# Altium integrated library BQ24072TRGTR.IntLib: 1 symbol
Pins are listed as number, name and electrical type; pins without a type are passive.

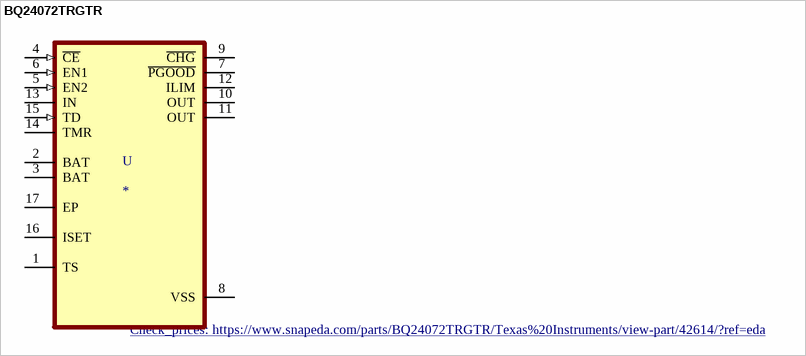
[diagram p0: symbol BQ24072TRGTR]

## BQ24072TRGTR
designator U
Standalone 1-cell 1.5-A linear charger, Power Path, 4.2-V VBAT, Voltage-based TS w/ TD 16-VQFN -40 to 85; MF: Texas Instruments; MP: BQ24072TRGTR; Texas_Instruments-Purchase-URL: https://snapeda.com/shop?store=Texas+Instruments&id=42614; Mouser-Purchase-URL: https://snapeda.com/shop?store=Mouser&id=42614; SnapEDA_Link: https://www.snapeda.com/parts/BQ24072TRGTR/Texas%20Instruments/view-part/42614/?ref=snap; Availability: Good; DigiKey-Purchase-URL: https://snapeda.com/shop?store=DigiKey&id=42614; Package: VQFN-16 Texas Instruments; Value: *; Price: None; Arrow_Electronics-Purchase-URL: https://snapeda.com/shop?store=Arrow+Electronics&id=42614; Check_prices: https://www.snapeda.com/parts/BQ24072TRGTR/Texas%20Instruments/view-part/42614/?ref=eda
footprint QFN50P300X300X100-17N
pins: 1 TS, 2 BAT (power), 3 BAT (power), 4 ~{CE} (in), 5 EN2 (in), 6 EN1 (in), 7 ~{PGOOD} (oc), 8 VSS (power), 9 ~{CHG} (oc), 10 OUT (power), 11 OUT (power), 12 ILIM, 13 IN (power), 14 TMR, 15 TD (in), 16 ISET, 17 EP (power)